# Altium schematic symbol library Microchip_MCP1703T_3302E_CB.SchLib: 1 symbol
Pins are listed as number, name and electrical type; pins without a type are passive.

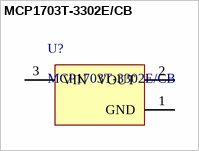
[diagram p0: symbol MCP1703T-3302E/CB]

## MCP1703T-3302E/CB
designator U?
250 mA, 16V, Low Quiescent Current LDO Regulator, 3-Pin SOT-23A, Extended Temperature, Tape and Reel; PackageVersion: revBB, Aug-2009; PackageReference: SOT-23A-CB3; PackageDescription: 3-Lead Plastic Small Outline Transistor (CB) [SOT-23A]; DatasheetVersion: revD, Sep-2009; PartNumber: MCP1703T-3302E/CB
footprint SOT-23A-CB3_M
footprint SOT-23A-CB3_N
footprint SOT-23A-CB3_L
pins: 1 GND (power), 2 VOUT (power), 3 VIN (power)